# Altium schematic symbol library UCC21520DW.SchLib: 1 symbol
Pins are listed as number, name and electrical type; pins without a type are passive.

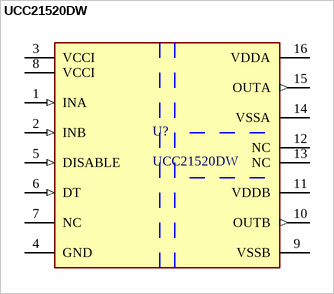
[diagram p0: symbol UCC21520DW]

## UCC21520DW
designator U?
footprint FP-DW0016B-MFG
footprint FP-DW0016B-IPC_B
footprint FP-DW0016B-IPC_A
footprint FP-DW0016B-IPC_C
pins: 1 INA (in), 2 INB (in), 3 VCCI (power), 4 GND (power), 5 DISABLE (in), 6 DT (in), 7 NC, 8 VCCI (power), 9 VSSB (power), 10 OUTB (out), 11 VDDB (power), 12 NC, 13 NC, 14 VSSA (power), 15 OUTA (out), 16 VDDA (power)